# Altium integrated library Linear Technology Power Management LDO Linear Regulators.IntLib: 2339 symbols (part 53 of 131)
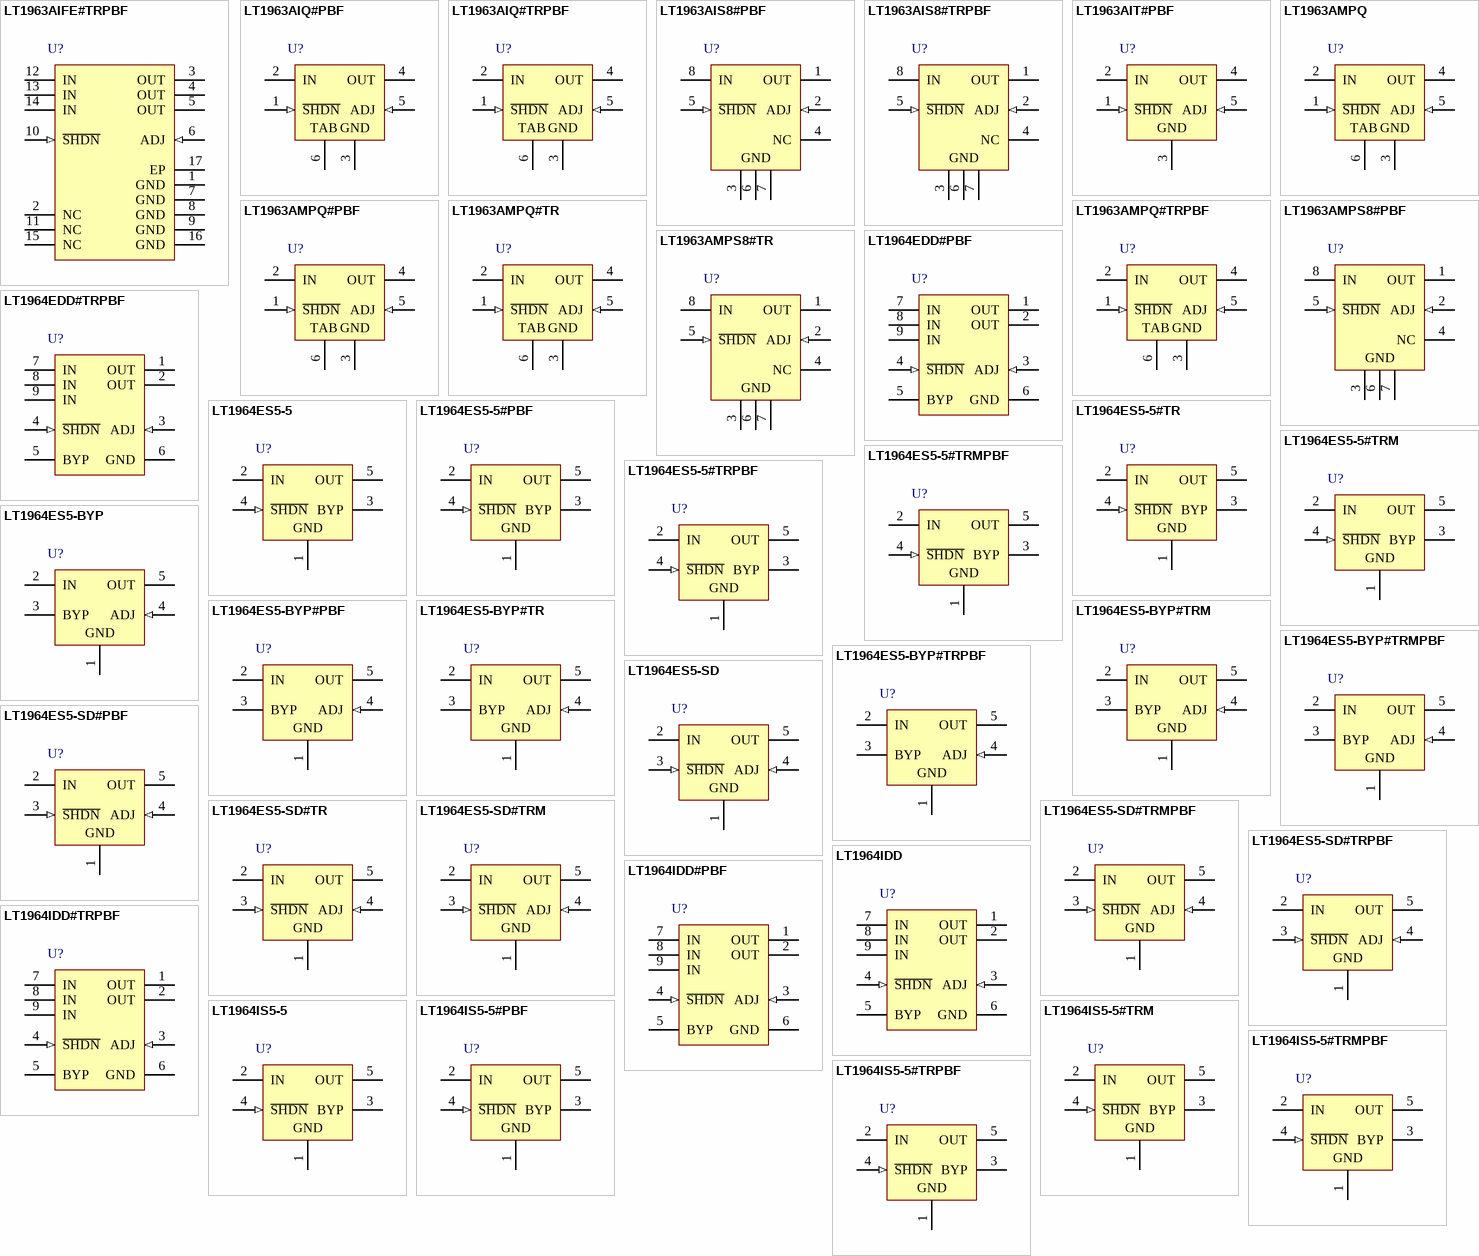
[diagram p121: symbols LT1963AIFE#TRPBF to LT1964IS5-5#TRPBF]

## LT1964IS5-5#TRM
designator U?
200 mA, Low Noise, Low Dropout Negative Micropower Regulator, -1.9 to -20 V Vin, -5 V Vout, 5-pin SOT23 (S5-5), -40 to 125 degC, Mini Tape and Reel; Manufacturer: Linear Technology; PartNumber: LT1964IS5-5#TRM; Discrete Pass Element: no; Dropout Voltage(V): 0.34; Iout(mA): 200; Isupply(mA): 0.03; Noise(uV): 30; Number of Outputs: 1; Output Voltage: -5 V; PSRR(dB): 54; Shutdown Current(uA): 3; Vout Max(V): -1.22; DatasheetVersion: Rev. B; PackageVersion: Jun-10; PackageReference: S5-5; PackageDescription: 5-Pin Plastic TSOT-23, Body 1.63 x 2.90 mm, Pitch 0.95 mm; Packing: Mini Tape and Reel; RoHS: FALSE; Vin Max(V): -1.9; Vin Min(V): -20; Vout Min(V): -20; Mounting Technology: Surface Mount; Code_JEDEC: MO-193; ComponentLink1Description: Manufacturer URL; ComponentLink1URL: http://www.linear.com/; ComponentLink2Description: Datasheet; ComponentLink2URL: http://cds.linear.com/docs/en/datasheet/1964fb.pdf; ComponentLink3Description: Package Specification; ComponentLink3URL: http://cds.linear.com/docs/en/packaging/SOT_5_05-08-1635.pdf
footprint LT-S5-5-TSOT-23_N (SOT23, 5-Leads, Body 2.90x1.63mm, Pitch 0.95mm, IPC Medium Density)
footprint LT-S5-5-TSOT-23_L (SOT23, 5-Leads, Body 2.90x1.63mm, Pitch 0.95mm, IPC High Density)
footprint LT-S5-5-TSOT-23_M (SOT23, 5-Leads, Body 2.90x1.63mm, Pitch 0.95mm, IPC Low Density)
pins: 1 GND (power) "Ground.", 2 IN (power) "Power is Supplied to the Device Through the Input Pin. A bypass capacitor is required on this pin if the device is more than six inches away from the main input filter capacitor. In general, the output impedance of a battery (See Datasheet)", 3 BYP "The BYP Pin is used to Bypass the Reference of the LT1964 to Achieve Low Noise Performance from the Regulator. A small capacitor from the output to this pin will bypass the reference to lower the output voltage noise. A (See Datasheet)", 4 ~{SHDN} (in) "The S\H\D\N\ Pin is used to put the LT1964 into a Low Power Shutdown State. The S\H\D\N\ pin is referenced to the GND pin for regulator control, allowing the LT1964 to be driven by either positive or negative logic. The (See Datasheet)", 5 OUT (power) "The Output Supplies Power to the Load. A minimum output capacitor of 1uF is required to prevent oscillations. Larger output capacitors will be required for applications with large transient loads to limit peak voltage (See Datasheet)"

## LT1964IS5-5#TRMPBF
designator U?
200 mA, Low Noise, Low Dropout Negative Micropower Regulator, -1.9 to -20 V Vin, -5 V Vout, 5-pin SOT23 (S5-5), -40 to 125 degC, Pb-Free, Mini Tape and Reel; Manufacturer: Linear Technology; PartNumber: LT1964IS5-5#TRMPBF; Discrete Pass Element: no; Dropout Voltage(V): 0.34; Iout(mA): 200; Isupply(mA): 0.03; Noise(uV): 30; Number of Outputs: 1; Output Voltage: -5 V; PSRR(dB): 54; Shutdown Current(uA): 3; DatasheetVersion: Rev. B; PackageVersion: Jun-10; PackageReference: S5-5; PackageDescription: 5-Pin Plastic TSOT-23, Body 1.63 x 2.90 mm, Pitch 0.95 mm; Supplier 1: Digi-Key; Supplier Part Number 1: LT1964IS5-5#TRMPBFTR-ND; Supplier 2: Digi-Key; Supplier Part Number 2: LT1964IS5-5#TRMPBFCT-ND; Supplier 3: Digi-Key; Supplier Part Number 3: LT1964IS5-5#TRMPBFDKR-ND; Supplier 4: Newark; Supplier Part Number 4: 15N3640; Packing: Mini Tape and Reel; RoHS: TRUE; Vin Max(V): -1.9; Vin Min(V): -20; Mounting Technology: Surface Mount; Code_JEDEC: MO-193; ComponentLink1Description: Manufacturer URL; ComponentLink1URL: http://www.linear.com/; ComponentLink2Description: Datasheet; ComponentLink2URL: http://cds.linear.com/docs/en/datasheet/1964fb.pdf; ComponentLink3Description: Package Specification; ComponentLink3URL: http://cds.linear.com/docs/en/packaging/SOT_5_05-08-1635.pdf
footprint LT-S5-5-TSOT-23_N (SOT23, 5-Leads, Body 2.90x1.63mm, Pitch 0.95mm, IPC Medium Density)
footprint LT-S5-5-TSOT-23_L (SOT23, 5-Leads, Body 2.90x1.63mm, Pitch 0.95mm, IPC High Density)
footprint LT-S5-5-TSOT-23_M (SOT23, 5-Leads, Body 2.90x1.63mm, Pitch 0.95mm, IPC Low Density)
pins: 1 GND (power) "Ground.", 2 IN (power) "Power is Supplied to the Device Through the Input Pin. A bypass capacitor is required on this pin if the device is more than six inches away from the main input filter capacitor. In general, the output impedance of a battery (See Datasheet)", 3 BYP "The BYP Pin is used to Bypass the Reference of the LT1964 to Achieve Low Noise Performance from the Regulator. A small capacitor from the output to this pin will bypass the reference to lower the output voltage noise. A (See Datasheet)", 4 ~{SHDN} (in) "The S\H\D\N\ Pin is used to put the LT1964 into a Low Power Shutdown State. The S\H\D\N\ pin is referenced to the GND pin for regulator control, allowing the LT1964 to be driven by either positive or negative logic. The (See Datasheet)", 5 OUT (power) "The Output Supplies Power to the Load. A minimum output capacitor of 1uF is required to prevent oscillations. Larger output capacitors will be required for applications with large transient loads to limit peak voltage (See Datasheet)"

## LT1964IS5-5#TRPBF
designator U?
200 mA, Low Noise, Low Dropout Negative Micropower Regulator, -1.9 to -20 V Vin, -5 V Vout, 5-pin SOT23 (S5-5), -40 to 125 degC, Pb-Free, Tape and Reel; Manufacturer: Linear Technology; PartNumber: LT1964IS5-5#TRPBF; Discrete Pass Element: no; Dropout Voltage(V): 0.34; Iout(mA): 200; Isupply(mA): 0.03; Noise(uV): 30; Number of Outputs: 1; Output Voltage: -5 V; PSRR(dB): 54; Shutdown Current(uA): 3; Vout Max(V): -1.22; DatasheetVersion: Rev. B; PackageVersion: Jun-10; PackageReference: S5-5; PackageDescription: 5-Pin Plastic TSOT-23, Body 1.63 x 2.90 mm, Pitch 0.95 mm; Supplier 1: Digi-Key; Supplier Part Number 1: LT1964IS5-5#TRPBF-ND; Supplier 2: Newark; Supplier Part Number 2: 15N3641; Packing: Tape and Reel; RoHS: TRUE; Vin Max(V): -1.9; Vin Min(V): -20; Vout Min(V): -20; Mounting Technology: Surface Mount; Code_JEDEC: MO-193; ComponentLink1Description: Manufacturer URL; ComponentLink1URL: http://www.linear.com/; ComponentLink2Description: Datasheet; ComponentLink2URL: http://cds.linear.com/docs/en/datasheet/1964fb.pdf; ComponentLink3Description: Package Specification; ComponentLink3URL: http://cds.linear.com/docs/en/packaging/SOT_5_05-08-1635.pdf
footprint LT-S5-5-TSOT-23_N (SOT23, 5-Leads, Body 2.90x1.63mm, Pitch 0.95mm, IPC Medium Density)
footprint LT-S5-5-TSOT-23_L (SOT23, 5-Leads, Body 2.90x1.63mm, Pitch 0.95mm, IPC High Density)
footprint LT-S5-5-TSOT-23_M (SOT23, 5-Leads, Body 2.90x1.63mm, Pitch 0.95mm, IPC Low Density)
pins: 1 GND (power) "Ground.", 2 IN (power) "Power is Supplied to the Device Through the Input Pin. A bypass capacitor is required on this pin if the device is more than six inches away from the main input filter capacitor. In general, the output impedance of a battery (See Datasheet)", 3 BYP "The BYP Pin is used to Bypass the Reference of the LT1964 to Achieve Low Noise Performance from the Regulator. A small capacitor from the output to this pin will bypass the reference to lower the output voltage noise. A (See Datasheet)", 4 ~{SHDN} (in) "The S\H\D\N\ Pin is used to put the LT1964 into a Low Power Shutdown State. The S\H\D\N\ pin is referenced to the GND pin for regulator control, allowing the LT1964 to be driven by either positive or negative logic. The (See Datasheet)", 5 OUT (power) "The Output Supplies Power to the Load. A minimum output capacitor of 1uF is required to prevent oscillations. Larger output capacitors will be required for applications with large transient loads to limit peak voltage (See Datasheet)"

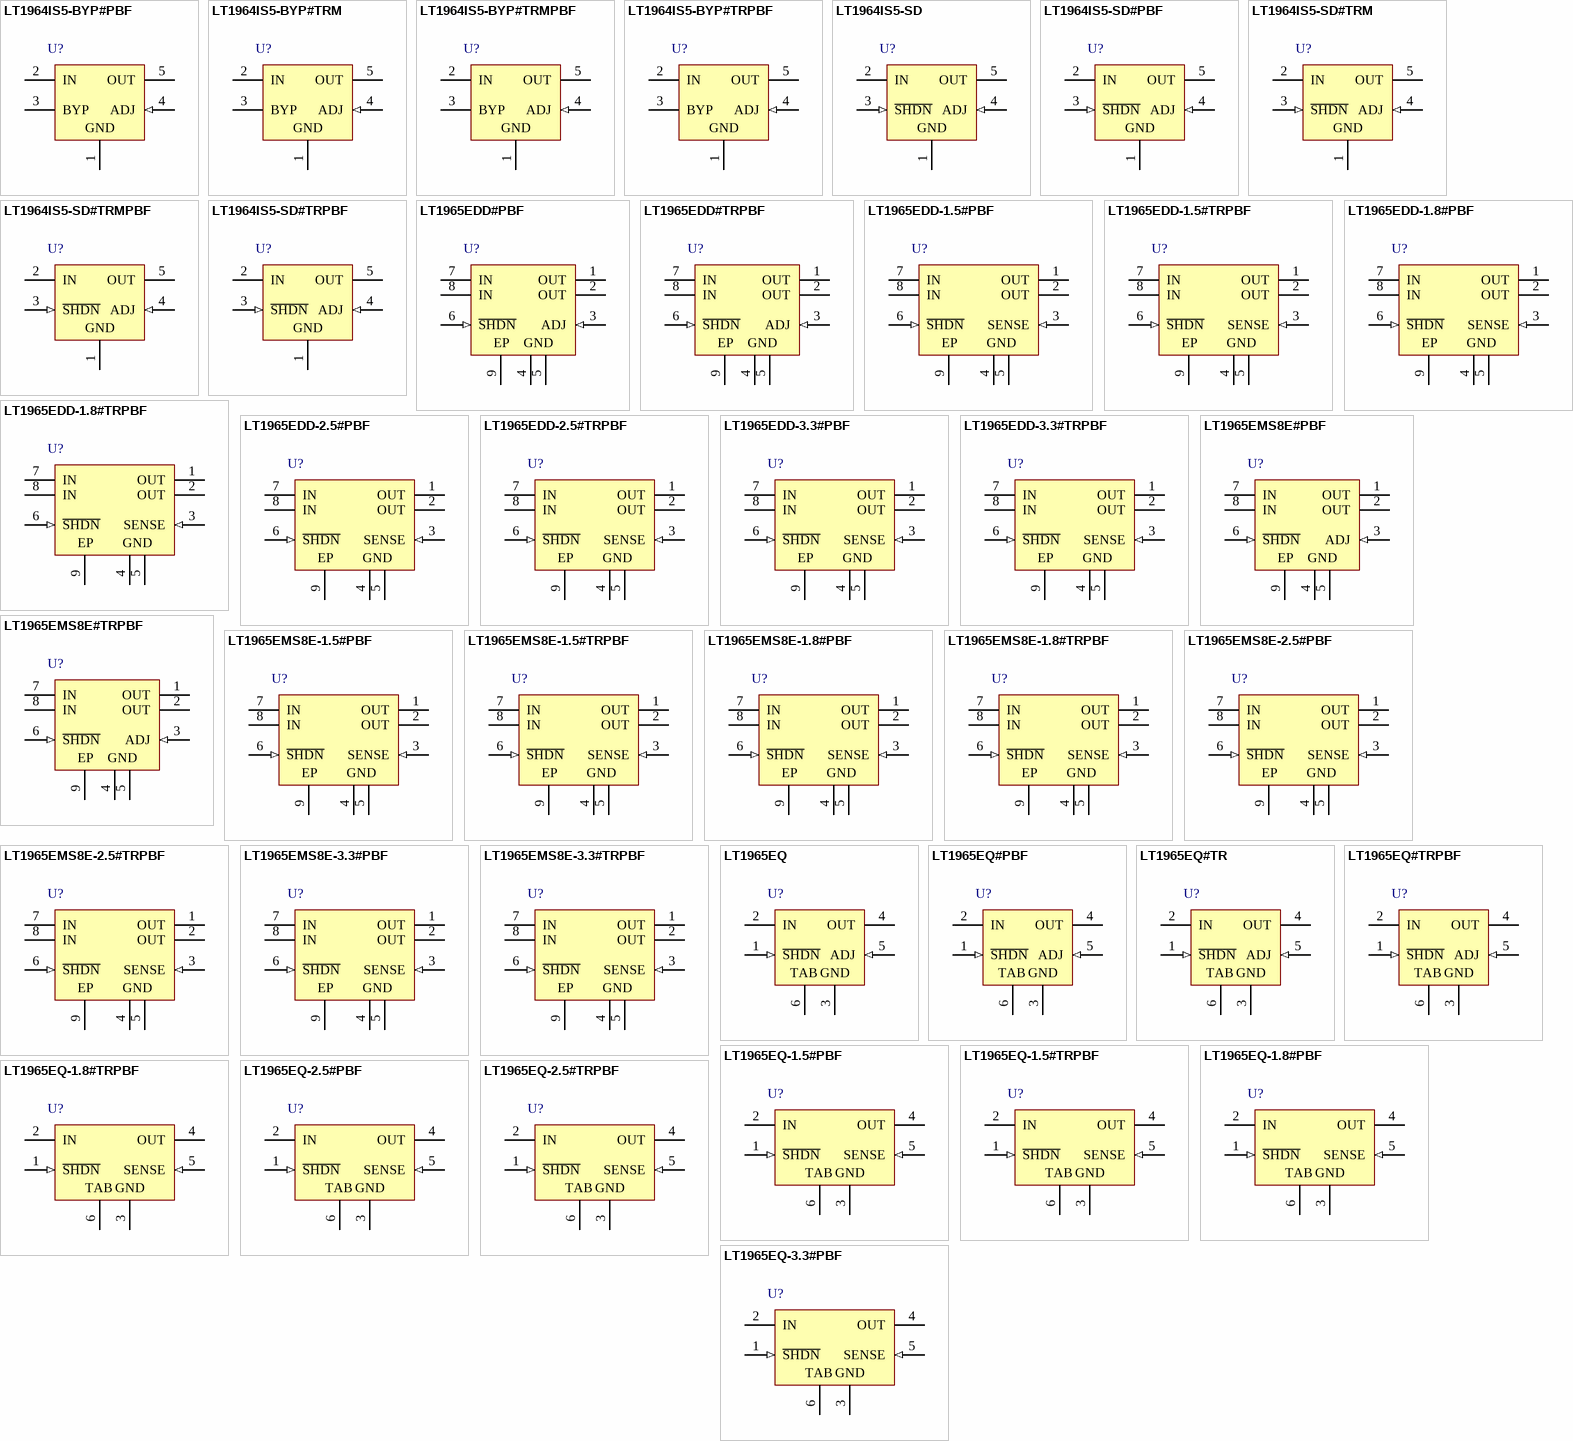
[diagram p35: symbols LT1964IS5-BYP#PBF to LT1965EQ-3.3#PBF]

## LT1964IS5-BYP#PBF
designator U?
200 mA, Low Noise, Low Dropout Negative Micropower Regulator, -1.9 to -20 V Vin, Adjustable Vout, 5-pin SOT23 (S5-5), -40 to 125 degC, Pb-Free; Manufacturer: Linear Technology; PartNumber: LT1964IS5-BYP#PBF; Discrete Pass Element: no; Dropout Voltage(V): 0.34; Iout(mA): 200; Isupply(mA): 0.03; Noise(uV): 30; Number of Outputs: 1; Output Voltage: Adj; PSRR(dB): 54; Shutdown Current(uA): 3; Vout Max(V): -1.22; DatasheetVersion: Rev. B; PackageVersion: Jun-10; PackageReference: S5-5; PackageDescription: 5-Pin Plastic TSOT-23, Body 1.63 x 2.90 mm, Pitch 0.95 mm; Supplier 1: Newark; Supplier Part Number 1: 58T8720; RoHS: TRUE; Vin Max(V): -1.9; Vin Min(V): -20; Vout Min(V): -20; Mounting Technology: Surface Mount; Code_JEDEC: MO-193; ComponentLink1Description: Manufacturer URL; ComponentLink1URL: http://www.linear.com/; ComponentLink2Description: Datasheet; ComponentLink2URL: http://cds.linear.com/docs/en/datasheet/1964fb.pdf; ComponentLink3Description: Package Specification; ComponentLink3URL: http://cds.linear.com/docs/en/packaging/SOT_5_05-08-1635.pdf
footprint LT-S5-5-TSOT-23_N (SOT23, 5-Leads, Body 2.90x1.63mm, Pitch 0.95mm, IPC Medium Density)
footprint LT-S5-5-TSOT-23_L (SOT23, 5-Leads, Body 2.90x1.63mm, Pitch 0.95mm, IPC High Density)
footprint LT-S5-5-TSOT-23_M (SOT23, 5-Leads, Body 2.90x1.63mm, Pitch 0.95mm, IPC Low Density)
pins: 1 GND (power) "Ground.", 2 IN (power) "Power is Supplied to the Device Through the Input Pin. A bypass capacitor is required on this pin if the device is more than six inches away from the main input filter capacitor. In general, the output impedance of a battery (See Datasheet)", 3 BYP "The BYP Pin is used to Bypass the Reference of the LT1964 to Achieve Low Noise Performance from the Regulator. A small capacitor from the output to this pin will bypass the reference to lower the output voltage noise. A (See Datasheet)", 4 ADJ (in) "For the Adjustable LT1964, this is the Input to the Error Amplifier. The ADJ pin has a bias current of 30nA that flows out of the pin. The ADJ pin voltage is -1.22V referenced to ground, and the output voltage range is -1.(See Datasheet)", 5 OUT (power) "The Output Supplies Power to the Load. A minimum output capacitor of 1uF is required to prevent oscillations. Larger output capacitors will be required for applications with large transient loads to limit peak voltage (See Datasheet)"

## LT1964IS5-BYP#TRM
designator U?
200 mA, Low Noise, Low Dropout Negative Micropower Regulator, -1.9 to -20 V Vin, Adjustable Vout, 5-pin SOT23 (S5-5), -40 to 125 degC, Mini Tape and Reel; Manufacturer: Linear Technology; PartNumber: LT1964IS5-BYP#TRM; Discrete Pass Element: no; Dropout Voltage(V): 0.34; Iout(mA): 200; Isupply(mA): 0.03; Noise(uV): 30; Number of Outputs: 1; Output Voltage: Adj; PSRR(dB): 54; Shutdown Current(uA): 3; Vout Max(V): -1.22; DatasheetVersion: Rev. B; PackageVersion: Jun-10; PackageReference: S5-5; PackageDescription: 5-Pin Plastic TSOT-23, Body 1.63 x 2.90 mm, Pitch 0.95 mm; Packing: Mini Tape and Reel; RoHS: FALSE; Vin Max(V): -1.9; Vin Min(V): -20; Vout Min(V): -20; Mounting Technology: Surface Mount; Code_JEDEC: MO-193; ComponentLink1Description: Manufacturer URL; ComponentLink1URL: http://www.linear.com/; ComponentLink2Description: Datasheet; ComponentLink2URL: http://cds.linear.com/docs/en/datasheet/1964fb.pdf; ComponentLink3Description: Package Specification; ComponentLink3URL: http://cds.linear.com/docs/en/packaging/SOT_5_05-08-1635.pdf
footprint LT-S5-5-TSOT-23_N (SOT23, 5-Leads, Body 2.90x1.63mm, Pitch 0.95mm, IPC Medium Density)
footprint LT-S5-5-TSOT-23_L (SOT23, 5-Leads, Body 2.90x1.63mm, Pitch 0.95mm, IPC High Density)
footprint LT-S5-5-TSOT-23_M (SOT23, 5-Leads, Body 2.90x1.63mm, Pitch 0.95mm, IPC Low Density)
pins: 1 GND (power) "Ground.", 2 IN (power) "Power is Supplied to the Device Through the Input Pin. A bypass capacitor is required on this pin if the device is more than six inches away from the main input filter capacitor. In general, the output impedance of a battery (See Datasheet)", 3 BYP "The BYP Pin is used to Bypass the Reference of the LT1964 to Achieve Low Noise Performance from the Regulator. A small capacitor from the output to this pin will bypass the reference to lower the output voltage noise. A (See Datasheet)", 4 ADJ (in) "For the Adjustable LT1964, this is the Input to the Error Amplifier. The ADJ pin has a bias current of 30nA that flows out of the pin. The ADJ pin voltage is -1.22V referenced to ground, and the output voltage range is -1.(See Datasheet)", 5 OUT (power) "The Output Supplies Power to the Load. A minimum output capacitor of 1uF is required to prevent oscillations. Larger output capacitors will be required for applications with large transient loads to limit peak voltage (See Datasheet)"

## LT1964IS5-BYP#TRMPBF
designator U?
200 mA, Low Noise, Low Dropout Negative Micropower Regulator, -1.9 to -20 V Vin, Adjustable Vout, 5-pin SOT23 (S5-5), -40 to 125 degC, Pb-Free, Mini Tape and Reel; Manufacturer: Linear Technology; PartNumber: LT1964IS5-BYP#TRMPBF; Discrete Pass Element: no; Dropout Voltage(V): 0.34; Iout(mA): 200; Isupply(mA): 0.03; Noise(uV): 30; Number of Outputs: 1; Output Voltage: Adj; PSRR(dB): 54; Shutdown Current(uA): 3; Vout Max(V): -1.22; DatasheetVersion: Rev. B; PackageVersion: Jun-10; PackageReference: S5-5; PackageDescription: 5-Pin Plastic TSOT-23, Body 1.63 x 2.90 mm, Pitch 0.95 mm; Supplier 1: Digi-Key; Supplier Part Number 1: LT1964IS5-BYP#TRMPBFTR-ND; Supplier 2: Digi-Key; Supplier Part Number 2: LT1964IS5-BYP#TRMPBFCT-ND; Supplier 3: Digi-Key; Supplier Part Number 3: LT1964IS5-BYP#TRMPBFDKR-ND; Supplier 4: Newark; Supplier Part Number 4: 15N3636; Packing: Mini Tape and Reel; RoHS: TRUE; Vin Max(V): -1.9; Vin Min(V): -20; Vout Min(V): -20; Mounting Technology: Surface Mount; Code_JEDEC: MO-193; ComponentLink1Description: Manufacturer URL; ComponentLink1URL: http://www.linear.com/; ComponentLink2Description: Datasheet; ComponentLink2URL: http://cds.linear.com/docs/en/datasheet/1964fb.pdf; ComponentLink3Description: Package Specification; ComponentLink3URL: http://cds.linear.com/docs/en/packaging/SOT_5_05-08-1635.pdf
footprint LT-S5-5-TSOT-23_N (SOT23, 5-Leads, Body 2.90x1.63mm, Pitch 0.95mm, IPC Medium Density)
footprint LT-S5-5-TSOT-23_L (SOT23, 5-Leads, Body 2.90x1.63mm, Pitch 0.95mm, IPC High Density)
footprint LT-S5-5-TSOT-23_M (SOT23, 5-Leads, Body 2.90x1.63mm, Pitch 0.95mm, IPC Low Density)
pins: 1 GND (power) "Ground.", 2 IN (power) "Power is Supplied to the Device Through the Input Pin. A bypass capacitor is required on this pin if the device is more than six inches away from the main input filter capacitor. In general, the output impedance of a battery (See Datasheet)", 3 BYP "The BYP Pin is used to Bypass the Reference of the LT1964 to Achieve Low Noise Performance from the Regulator. A small capacitor from the output to this pin will bypass the reference to lower the output voltage noise. A (See Datasheet)", 4 ADJ (in) "For the Adjustable LT1964, this is the Input to the Error Amplifier. The ADJ pin has a bias current of 30nA that flows out of the pin. The ADJ pin voltage is -1.22V referenced to ground, and the output voltage range is -1.(See Datasheet)", 5 OUT (power) "The Output Supplies Power to the Load. A minimum output capacitor of 1uF is required to prevent oscillations. Larger output capacitors will be required for applications with large transient loads to limit peak voltage (See Datasheet)"

## LT1964IS5-BYP#TRPBF
designator U?
200 mA, Low Noise, Low Dropout Negative Micropower Regulator, -1.9 to -20 V Vin, Adjustable Vout, 5-pin SOT23 (S5-5), -40 to 125 degC, Pb-Free, Tape and Reel; Manufacturer: Linear Technology; PartNumber: LT1964IS5-BYP#TRPBF; Discrete Pass Element: no; Dropout Voltage(V): 0.34; Iout(mA): 200; Isupply(mA): 0.03; Noise(uV): 30; Number of Outputs: 1; Output Voltage: Adj; PSRR(dB): 54; Shutdown Current(uA): 3; Vout Max(V): -1.22; DatasheetVersion: Rev. B; PackageVersion: Jun-10; PackageReference: S5-5; PackageDescription: 5-Pin Plastic TSOT-23, Body 1.63 x 2.90 mm, Pitch 0.95 mm; Supplier 1: Digi-Key; Supplier Part Number 1: LT1964IS5-BYP#TRPBF-ND; Supplier 2: Newark; Supplier Part Number 2: 15N3637; Packing: Tape and Reel; RoHS: TRUE; Vin Max(V): -1.9; Vin Min(V): -20; Vout Min(V): -20; Mounting Technology: Surface Mount; Code_JEDEC: MO-193; ComponentLink1Description: Manufacturer URL; ComponentLink1URL: http://www.linear.com/; ComponentLink2Description: Datasheet; ComponentLink2URL: http://cds.linear.com/docs/en/datasheet/1964fb.pdf; ComponentLink3Description: Package Specification; ComponentLink3URL: http://cds.linear.com/docs/en/packaging/SOT_5_05-08-1635.pdf
footprint LT-S5-5-TSOT-23_N (SOT23, 5-Leads, Body 2.90x1.63mm, Pitch 0.95mm, IPC Medium Density)
footprint LT-S5-5-TSOT-23_L (SOT23, 5-Leads, Body 2.90x1.63mm, Pitch 0.95mm, IPC High Density)
footprint LT-S5-5-TSOT-23_M (SOT23, 5-Leads, Body 2.90x1.63mm, Pitch 0.95mm, IPC Low Density)
pins: 1 GND (power) "Ground.", 2 IN (power) "Power is Supplied to the Device Through the Input Pin. A bypass capacitor is required on this pin if the device is more than six inches away from the main input filter capacitor. In general, the output impedance of a battery (See Datasheet)", 3 BYP "The BYP Pin is used to Bypass the Reference of the LT1964 to Achieve Low Noise Performance from the Regulator. A small capacitor from the output to this pin will bypass the reference to lower the output voltage noise. A (See Datasheet)", 4 ADJ (in) "For the Adjustable LT1964, this is the Input to the Error Amplifier. The ADJ pin has a bias current of 30nA that flows out of the pin. The ADJ pin voltage is -1.22V referenced to ground, and the output voltage range is -1.(See Datasheet)", 5 OUT (power) "The Output Supplies Power to the Load. A minimum output capacitor of 1uF is required to prevent oscillations. Larger output capacitors will be required for applications with large transient loads to limit peak voltage (See Datasheet)"

## LT1964IS5-SD
designator U?
200 mA, Low Noise, Low Dropout Negative Micropower Regulator, -1.6 to -20 V Vin, Adjustable Vout, 5-pin SOT23 (S5-5), -40 to 125 degC; Manufacturer: Linear Technology; PartNumber: LT1964IS5-SD; Discrete Pass Element: no; Dropout Voltage(V): 0.34; Iout(mA): 200; Isupply(mA): 0.03; Noise(uV): 30; Number of Outputs: 1; Output Voltage: Adj; PSRR(dB): 54; Shutdown Current(uA): 3; Vout Max(V): -1.22; DatasheetVersion: Rev. B; PackageVersion: Jun-10; PackageReference: S5-5; PackageDescription: 5-Pin Plastic TSOT-23, Body 1.63 x 2.90 mm, Pitch 0.95 mm; RoHS: FALSE; Vin Max(V): -1.6; Vin Min(V): -20; Vout Min(V): -20; Mounting Technology: Surface Mount; Code_JEDEC: MO-193; ComponentLink1Description: Manufacturer URL; ComponentLink1URL: http://www.linear.com/; ComponentLink2Description: Datasheet; ComponentLink2URL: http://cds.linear.com/docs/en/datasheet/1964fb.pdf; ComponentLink3Description: Package Specification; ComponentLink3URL: http://cds.linear.com/docs/en/packaging/SOT_5_05-08-1635.pdf
footprint LT-S5-5-TSOT-23_N (SOT23, 5-Leads, Body 2.90x1.63mm, Pitch 0.95mm, IPC Medium Density)
footprint LT-S5-5-TSOT-23_L (SOT23, 5-Leads, Body 2.90x1.63mm, Pitch 0.95mm, IPC High Density)
footprint LT-S5-5-TSOT-23_M (SOT23, 5-Leads, Body 2.90x1.63mm, Pitch 0.95mm, IPC Low Density)
pins: 1 GND (power) "Ground.", 2 IN (power) "Power is Supplied to the Device Through the Input Pin. A bypass capacitor is required on this pin if the device is more than six inches away from the main input filter capacitor. In general, the output impedance of a battery (See Datasheet)", 3 ~{SHDN} (in) "The S\H\D\N\ Pin is used to put the LT1964 into a Low Power Shutdown State. The S\H\D\N\ pin is referenced to the GND pin for regulator control, allowing the LT1964 to be driven by either positive or negative logic. The (See Datasheet)", 4 ADJ (in) "For the Adjustable LT1964, this is the Input to the Error Amplifier. The ADJ pin has a bias current of 30nA that flows out of the pin. The ADJ pin voltage is -1.22V referenced to ground, and the output voltage range is -1.(See Datasheet)", 5 OUT (power) "The Output Supplies Power to the Load. A minimum output capacitor of 1uF is required to prevent oscillations. Larger output capacitors will be required for applications with large transient loads to limit peak voltage (See Datasheet)"

## LT1964IS5-SD#PBF
designator U?
200 mA, Low Noise, Low Dropout Negative Micropower Regulator, -1.6 to -20 V Vin, Adjustable Vout, 5-pin SOT23 (S5-5), -40 to 125 degC, Pb-Free; Manufacturer: Linear Technology; PartNumber: LT1964IS5-SD#PBF; Discrete Pass Element: no; Dropout Voltage(V): 0.34; Iout(mA): 200; Isupply(mA): 0.03; Noise(uV): 30; Number of Outputs: 1; Output Voltage: Adj; PSRR(dB): 54; Shutdown Current(uA): 3; Vout Max(V): -1.22; DatasheetVersion: Rev. B; PackageVersion: Jun-10; PackageReference: S5-5; PackageDescription: 5-Pin Plastic TSOT-23, Body 1.63 x 2.90 mm, Pitch 0.95 mm; Supplier 1: Newark; Supplier Part Number 1: 78T3772; RoHS: TRUE; Vin Max(V): -1.6; Vin Min(V): -20; Vout Min(V): -20; Mounting Technology: Surface Mount; Code_JEDEC: MO-193; ComponentLink1Description: Manufacturer URL; ComponentLink1URL: http://www.linear.com/; ComponentLink2Description: Datasheet; ComponentLink2URL: http://cds.linear.com/docs/en/datasheet/1964fb.pdf; ComponentLink3Description: Package Specification; ComponentLink3URL: http://cds.linear.com/docs/en/packaging/SOT_5_05-08-1635.pdf
footprint LT-S5-5-TSOT-23_N (SOT23, 5-Leads, Body 2.90x1.63mm, Pitch 0.95mm, IPC Medium Density)
footprint LT-S5-5-TSOT-23_L (SOT23, 5-Leads, Body 2.90x1.63mm, Pitch 0.95mm, IPC High Density)
footprint LT-S5-5-TSOT-23_M (SOT23, 5-Leads, Body 2.90x1.63mm, Pitch 0.95mm, IPC Low Density)
pins: 1 GND (power) "Ground.", 2 IN (power) "Power is Supplied to the Device Through the Input Pin. A bypass capacitor is required on this pin if the device is more than six inches away from the main input filter capacitor. In general, the output impedance of a battery (See Datasheet)", 3 ~{SHDN} (in) "The S\H\D\N\ Pin is used to put the LT1964 into a Low Power Shutdown State. The S\H\D\N\ pin is referenced to the GND pin for regulator control, allowing the LT1964 to be driven by either positive or negative logic. The (See Datasheet)", 4 ADJ (in) "For the Adjustable LT1964, this is the Input to the Error Amplifier. The ADJ pin has a bias current of 30nA that flows out of the pin. The ADJ pin voltage is -1.22V referenced to ground, and the output voltage range is -1.(See Datasheet)", 5 OUT (power) "The Output Supplies Power to the Load. A minimum output capacitor of 1uF is required to prevent oscillations. Larger output capacitors will be required for applications with large transient loads to limit peak voltage (See Datasheet)"

## LT1964IS5-SD#TRM
designator U?
200 mA, Low Noise, Low Dropout Negative Micropower Regulator, -1.6 to -20 V Vin, Adjustable Vout, 5-pin SOT23 (S5-5), -40 to 125 degC, Mini Tape and Reel; Manufacturer: Linear Technology; PartNumber: LT1964IS5-SD#TRM; Discrete Pass Element: no; Dropout Voltage(V): 0.34; Iout(mA): 200; Isupply(mA): 0.03; Noise(uV): 30; Number of Outputs: 1; Output Voltage: Adj; PSRR(dB): 54; Shutdown Current(uA): 3; Vout Max(V): -1.22; DatasheetVersion: Rev. B; PackageVersion: Jun-10; PackageReference: S5-5; PackageDescription: 5-Pin Plastic TSOT-23, Body 1.63 x 2.90 mm, Pitch 0.95 mm; Packing: Mini Tape and Reel; RoHS: FALSE; Vin Max(V): -1.6; Vin Min(V): -20; Vout Min(V): -20; Mounting Technology: Surface Mount; Code_JEDEC: MO-193; ComponentLink1Description: Manufacturer URL; ComponentLink1URL: http://www.linear.com/; ComponentLink2Description: Datasheet; ComponentLink2URL: http://cds.linear.com/docs/en/datasheet/1964fb.pdf; ComponentLink3Description: Package Specification; ComponentLink3URL: http://cds.linear.com/docs/en/packaging/SOT_5_05-08-1635.pdf
footprint LT-S5-5-TSOT-23_N (SOT23, 5-Leads, Body 2.90x1.63mm, Pitch 0.95mm, IPC Medium Density)
footprint LT-S5-5-TSOT-23_L (SOT23, 5-Leads, Body 2.90x1.63mm, Pitch 0.95mm, IPC High Density)
footprint LT-S5-5-TSOT-23_M (SOT23, 5-Leads, Body 2.90x1.63mm, Pitch 0.95mm, IPC Low Density)
pins: 1 GND (power) "Ground.", 2 IN (power) "Power is Supplied to the Device Through the Input Pin. A bypass capacitor is required on this pin if the device is more than six inches away from the main input filter capacitor. In general, the output impedance of a battery (See Datasheet)", 3 ~{SHDN} (in) "The S\H\D\N\ Pin is used to put the LT1964 into a Low Power Shutdown State. The S\H\D\N\ pin is referenced to the GND pin for regulator control, allowing the LT1964 to be driven by either positive or negative logic. The (See Datasheet)", 4 ADJ (in) "For the Adjustable LT1964, this is the Input to the Error Amplifier. The ADJ pin has a bias current of 30nA that flows out of the pin. The ADJ pin voltage is -1.22V referenced to ground, and the output voltage range is -1.(See Datasheet)", 5 OUT (power) "The Output Supplies Power to the Load. A minimum output capacitor of 1uF is required to prevent oscillations. Larger output capacitors will be required for applications with large transient loads to limit peak voltage (See Datasheet)"

## LT1964IS5-SD#TRMPBF
designator U?
200 mA, Low Noise, Low Dropout Negative Micropower Regulator, -1.6 to -20 V Vin, Adjustable Vout, 5-pin SOT23 (S5-5), -40 to 125 degC, Pb-Free, Mini Tape and Reel; Manufacturer: Linear Technology; PartNumber: LT1964IS5-SD#TRMPBF; Discrete Pass Element: no; Dropout Voltage(V): 0.34; Iout(mA): 200; Isupply(mA): 0.03; Noise(uV): 30; Number of Outputs: 1; Output Voltage: Adj; PSRR(dB): 54; Shutdown Current(uA): 3; Vout Max(V): -1.22; DatasheetVersion: Rev. B; PackageVersion: Jun-10; PackageReference: S5-5; PackageDescription: 5-Pin Plastic TSOT-23, Body 1.63 x 2.90 mm, Pitch 0.95 mm; Supplier 1: Digi-Key; Supplier Part Number 1: LT1964IS5-SD#TRMPBF-ND; Packing: Mini Tape and Reel; RoHS: TRUE; Vin Max(V): -1.6; Vin Min(V): -20; Vout Min(V): -20; Mounting Technology: Surface Mount; Code_JEDEC: MO-193; ComponentLink1Description: Manufacturer URL; ComponentLink1URL: http://www.linear.com/; ComponentLink2Description: Datasheet; ComponentLink2URL: http://cds.linear.com/docs/en/datasheet/1964fb.pdf; ComponentLink3Description: Package Specification; ComponentLink3URL: http://cds.linear.com/docs/en/packaging/SOT_5_05-08-1635.pdf
footprint LT-S5-5-TSOT-23_N (SOT23, 5-Leads, Body 2.90x1.63mm, Pitch 0.95mm, IPC Medium Density)
footprint LT-S5-5-TSOT-23_L (SOT23, 5-Leads, Body 2.90x1.63mm, Pitch 0.95mm, IPC High Density)
footprint LT-S5-5-TSOT-23_M (SOT23, 5-Leads, Body 2.90x1.63mm, Pitch 0.95mm, IPC Low Density)
pins: 1 GND (power) "Ground.", 2 IN (power) "Power is Supplied to the Device Through the Input Pin. A bypass capacitor is required on this pin if the device is more than six inches away from the main input filter capacitor. In general, the output impedance of a battery (See Datasheet)", 3 ~{SHDN} (in) "The S\H\D\N\ Pin is used to put the LT1964 into a Low Power Shutdown State. The S\H\D\N\ pin is referenced to the GND pin for regulator control, allowing the LT1964 to be driven by either positive or negative logic. The (See Datasheet)", 4 ADJ (in) "For the Adjustable LT1964, this is the Input to the Error Amplifier. The ADJ pin has a bias current of 30nA that flows out of the pin. The ADJ pin voltage is -1.22V referenced to ground, and the output voltage range is -1.(See Datasheet)", 5 OUT (power) "The Output Supplies Power to the Load. A minimum output capacitor of 1uF is required to prevent oscillations. Larger output capacitors will be required for applications with large transient loads to limit peak voltage (See Datasheet)"

## LT1964IS5-SD#TRPBF
designator U?
200 mA, Low Noise, Low Dropout Negative Micropower Regulator, -1.9 to -20 V Vin, -5 V Vout, 5-pin SOT23 (S5-5), -40 to 125 degC, Pb-Free, Tape and Reel; Manufacturer: Linear Technology; PartNumber: LT1964IS5-SD#TRPBF; Discrete Pass Element: no; Dropout Voltage(V): 0.34; Iout(mA): 200; Isupply(mA): 0.03; Noise(uV): 30; Number of Outputs: 1; Output Voltage: -5 V; PSRR(dB): 54; Shutdown Current(uA): 3; Vout Max(V): -1.22; DatasheetVersion: Rev. B; PackageVersion: Jun-10; PackageReference: S5-5; PackageDescription: 5-Pin Plastic TSOT-23, Body 1.63 x 2.90 mm, Pitch 0.95 mm; Supplier 1: Digi-Key; Supplier Part Number 1: LT1964IS5-SD#TRPBF-ND; Packing: Tape and Reel; RoHS: TRUE; Vin Max(V): -1.9; Vin Min(V): -20; Vout Min(V): -20; Mounting Technology: Surface Mount; Code_JEDEC: MO-193; ComponentLink1Description: Manufacturer URL; ComponentLink1URL: http://www.linear.com/; ComponentLink2Description: Datasheet; ComponentLink2URL: http://cds.linear.com/docs/en/datasheet/1964fb.pdf; ComponentLink3Description: Package Specification; ComponentLink3URL: http://cds.linear.com/docs/en/packaging/SOT_5_05-08-1635.pdf
footprint LT-S5-5-TSOT-23_N (SOT23, 5-Leads, Body 2.90x1.63mm, Pitch 0.95mm, IPC Medium Density)
footprint LT-S5-5-TSOT-23_L (SOT23, 5-Leads, Body 2.90x1.63mm, Pitch 0.95mm, IPC High Density)
footprint LT-S5-5-TSOT-23_M (SOT23, 5-Leads, Body 2.90x1.63mm, Pitch 0.95mm, IPC Low Density)
pins: 1 GND (power) "Ground.", 2 IN (power) "Power is Supplied to the Device Through the Input Pin. A bypass capacitor is required on this pin if the device is more than six inches away from the main input filter capacitor. In general, the output impedance of a battery (See Datasheet)", 3 ~{SHDN} (in) "The S\H\D\N\ Pin is used to put the LT1964 into a Low Power Shutdown State. The S\H\D\N\ pin is referenced to the GND pin for regulator control, allowing the LT1964 to be driven by either positive or negative logic. The (See Datasheet)", 4 ADJ (in) "For the Adjustable LT1964, this is the Input to the Error Amplifier. The ADJ pin has a bias current of 30nA that flows out of the pin. The ADJ pin voltage is -1.22V referenced to ground, and the output voltage range is -1.(See Datasheet)", 5 OUT (power) "The Output Supplies Power to the Load. A minimum output capacitor of 1uF is required to prevent oscillations. Larger output capacitors will be required for applications with large transient loads to limit peak voltage (See Datasheet)"

## LT1965EDD#PBF
designator U?
1.1 A, Low Noise, Low Dropout Linear Regulator, 1.8 to 20 V Vin, Adjustable Vout, 8-pin SON (DD-8), -40 to 125 degC, Pb-Free; Manufacturer: Linear Technology; PartNumber: LT1965EDD#PBF; Discrete Pass Element: no; Dropout Voltage(V): 0.31; Iout(mA): 1100; Isupply(mA): 0.5; Noise(uV): 40; Number of Outputs: 1; Output Voltage: Adj; PSRR(dB): 75; Vin Max(V): 20; Vin Min(V): 1.8; Vout Max(V): 19.5; Vout Min(V): 1.2; DatasheetVersion: Rev. A; PackageVersion: Jun-10; PackageReference: DD-8; PackageDescription: 8-Pin Plastic DFN, Body 3 x 3 mm, Pitch 0.5 mm; Supplier 1: Digi-Key; Supplier Part Number 1: LT1965EDD#PBF-ND; Supplier 2: Farnell; Supplier Part Number 2: 1663531; Supplier 3: Newark; Supplier Part Number 3: 57M7592; RoHS: TRUE; Shutdown Current(uA): 1; Mounting Technology: Surface Mount; Code_JEDEC: MO-229; ComponentLink1Description: Manufacturer URL; ComponentLink1URL: http://www.linear.com/; ComponentLink2Description: Datasheet; ComponentLink2URL: http://cds.linear.com/docs/en/datasheet/1965fa.pdf; ComponentLink3Description: Package Specification; ComponentLink3URL: http://cds.linear.com/docs/en/packaging/DFN_8_05-08-1698.pdf
footprint LT-DD-8_V (SON, 8-Leads, Body 3x3mm, Pitch 0.5mm, Thermal Pad 1.65x2.38 mm, IPC Low Density)
pins: 1 OUT (power) "Output. This pin supplies power to the load. Use a minimum output capacitor of 10uF to prevent oscillations. Large load transient applications require larger output capacitors to limit peak voltage transients. See the (See Datasheet)", 2 OUT (power) "Output. This pin supplies power to the load. Use a minimum output capacitor of 10uF to prevent oscillations. Large load transient applications require larger output capacitors to limit peak voltage transients. See the (See Datasheet)", 3 ADJ (in) "Adjust. This pin is the input to the error amplifier. It has a typical bias current of 1.3uA that flows into the pin. The ADJ pin voltage is 1.20V referenced to ground.", 4 GND (power) "Ground. For the adjustable LT1965, connect the bottom of the resistor divider, setting output voltage, directly to GND for optimum regulation.", 5 GND (power) "Ground. For the adjustable LT1965, connect the bottom of the resistor divider, setting output voltage, directly to GND for optimum regulation.", 6 ~{SHDN} (in) "Shutdown. Pulling the S\H\D\N\ pin low puts the LT1965 into a low power state and turns the output off. Drive the S\H\D\N\ pin with either logic or an open collector/drain with a pull-up resistor. The resistor supplies the (See Datasheet)", 7 IN (power) "Input. This pin supplies power to the device. The LT1965 requires a bypass capacitor at IN if located more than six inches from the main input filter capacitor. Include a bypass capacitor in battery-powered circuits as a (See Datasheet)", 8 IN (power) "Input. This pin supplies power to the device. The LT1965 requires a bypass capacitor at IN if located more than six inches from the main input filter capacitor. Include a bypass capacitor in battery-powered circuits as a (See Datasheet)", 9 EP (power) "Ground. Tie this pin directly to Pins 4 and 5 and the PCB ground. This pin provides enhanced thermal performance with its connection to the PCB ground. See the Applications Information section for thermal considerations and (See Datasheet)"

## LT1965EDD#TRPBF
designator U?
1.1 A, Low Noise, Low Dropout Linear Regulator, 1.8 to 20 V Vin, Adjustable Vout, 8-pin SON (DD-8), -40 to 125 degC, Pb-Free, Tape and Reel; Manufacturer: Linear Technology; PartNumber: LT1965EDD#TRPBF; Discrete Pass Element: no; Dropout Voltage(V): 0.31; Iout(mA): 1100; Isupply(mA): 0.5; Noise(uV): 40; Number of Outputs: 1; Output Voltage: Adj; PSRR(dB): 75; Vin Max(V): 20; Vin Min(V): 1.8; Vout Max(V): 19.5; Vout Min(V): 1.2; DatasheetVersion: Rev. A; PackageVersion: Jun-10; PackageReference: DD-8; PackageDescription: 8-Pin Plastic DFN, Body 3 x 3 mm, Pitch 0.5 mm; Supplier 1: Digi-Key; Supplier Part Number 1: LT1965EDD#TRPBF-ND; Supplier 2: Newark; Supplier Part Number 2: 57M7593; Packing: Tape and Reel; RoHS: TRUE; Shutdown Current(uA): 1; Mounting Technology: Surface Mount; Code_JEDEC: MO-229; ComponentLink1Description: Manufacturer URL; ComponentLink1URL: http://www.linear.com/; ComponentLink2Description: Datasheet; ComponentLink2URL: http://cds.linear.com/docs/en/datasheet/1965fa.pdf; ComponentLink3Description: Package Specification; ComponentLink3URL: http://cds.linear.com/docs/en/packaging/DFN_8_05-08-1698.pdf
footprint LT-DD-8_V (SON, 8-Leads, Body 3x3mm, Pitch 0.5mm, Thermal Pad 1.65x2.38 mm, IPC Low Density)
pins: 1 OUT (power) "Output. This pin supplies power to the load. Use a minimum output capacitor of 10uF to prevent oscillations. Large load transient applications require larger output capacitors to limit peak voltage transients. See the (See Datasheet)", 2 OUT (power) "Output. This pin supplies power to the load. Use a minimum output capacitor of 10uF to prevent oscillations. Large load transient applications require larger output capacitors to limit peak voltage transients. See the (See Datasheet)", 3 ADJ (in) "Adjust. This pin is the input to the error amplifier. It has a typical bias current of 1.3uA that flows into the pin. The ADJ pin voltage is 1.20V referenced to ground.", 4 GND (power) "Ground. For the adjustable LT1965, connect the bottom of the resistor divider, setting output voltage, directly to GND for optimum regulation.", 5 GND (power) "Ground. For the adjustable LT1965, connect the bottom of the resistor divider, setting output voltage, directly to GND for optimum regulation.", 6 ~{SHDN} (in) "Shutdown. Pulling the S\H\D\N\ pin low puts the LT1965 into a low power state and turns the output off. Drive the S\H\D\N\ pin with either logic or an open collector/drain with a pull-up resistor. The resistor supplies the (See Datasheet)", 7 IN (power) "Input. This pin supplies power to the device. The LT1965 requires a bypass capacitor at IN if located more than six inches from the main input filter capacitor. Include a bypass capacitor in battery-powered circuits as a (See Datasheet)", 8 IN (power) "Input. This pin supplies power to the device. The LT1965 requires a bypass capacitor at IN if located more than six inches from the main input filter capacitor. Include a bypass capacitor in battery-powered circuits as a (See Datasheet)", 9 EP (power) "Ground. Tie this pin directly to Pins 4 and 5 and the PCB ground. This pin provides enhanced thermal performance with its connection to the PCB ground. See the Applications Information section for thermal considerations and (See Datasheet)"

## LT1965EDD-1.5#PBF
designator U?
1.1 A, Low Noise, Low Dropout Linear Regulator, 1.8 to 20 V Vin, 1.5 V Vout, 8-pin SON (DD-8), -40 to 125 degC, Pb-Free; Manufacturer: Linear Technology; PartNumber: LT1965EDD-1.5#PBF; Discrete Pass Element: no; Dropout Voltage(V): 0.31; Iout(mA): 1100; Isupply(mA): 0.5; Noise(uV): 40; Number of Outputs: 1; Output Voltage: 1.5 V; PSRR(dB): 75; Vin Max(V): 20; Vin Min(V): 1.8; DatasheetVersion: Rev. A; PackageVersion: Jun-10; PackageReference: DD-8; PackageDescription: 8-Pin Plastic DFN, Body 3 x 3 mm, Pitch 0.5 mm; Supplier 1: Digi-Key; Supplier Part Number 1: LT1965EDD-1.5#PBF-ND; Supplier 2: Newark; Supplier Part Number 2: 24R6652; RoHS: TRUE; Shutdown Current(uA): 1; Mounting Technology: Surface Mount; Code_JEDEC: MO-229; ComponentLink1Description: Manufacturer URL; ComponentLink1URL: http://www.linear.com/; ComponentLink2Description: Datasheet; ComponentLink2URL: http://cds.linear.com/docs/en/datasheet/1965fa.pdf; ComponentLink3Description: Package Specification; ComponentLink3URL: http://cds.linear.com/docs/en/packaging/DFN_8_05-08-1698.pdf
footprint LT-DD-8_V (SON, 8-Leads, Body 3x3mm, Pitch 0.5mm, Thermal Pad 1.65x2.38 mm, IPC Low Density)
pins: 1 OUT (power) "Output. This pin supplies power to the load. Use a minimum output capacitor of 10uF to prevent oscillations. Large load transient applications require larger output capacitors to limit peak voltage transients. See the (See Datasheet)", 2 OUT (power) "Output. This pin supplies power to the load. Use a minimum output capacitor of 10uF to prevent oscillations. Large load transient applications require larger output capacitors to limit peak voltage transients. See the (See Datasheet)", 3 SENSE (in) "Sense. For fixed voltage versions of the LT1965 (LT1965-1.5/LT1965-1.8/ LT1965-2.5/ LT1965-3.3), the SENSE pin is the input to the error amplifier. Optimum regulation is obtained when the SENSE pin is connected to the OUT (See Datasheet)", 4 GND (power) "Ground.", 5 GND (power) "Ground.", 6 ~{SHDN} (in) "Shutdown. Pulling the S\H\D\N\ pin low puts the LT1965 into a low power state and turns the output off. Drive the S\H\D\N\ pin with either logic or an open collector/drain with a pull-up resistor. The resistor supplies the (See Datasheet)", 7 IN (power) "Input. This pin supplies power to the device. The LT1965 requires a bypass capacitor at IN if located more than six inches from the main input filter capacitor. Include a bypass capacitor in battery-powered circuits as a (See Datasheet)", 8 IN (power) "Input. This pin supplies power to the device. The LT1965 requires a bypass capacitor at IN if located more than six inches from the main input filter capacitor. Include a bypass capacitor in battery-powered circuits as a (See Datasheet)", 9 EP (power) "Ground. Tie this pin directly to Pins 4 and 5 and the PCB ground. This pin provides enhanced thermal performance with its connection to the PCB ground. See the Applications Information section for thermal considerations and (See Datasheet)"

## LT1965EDD-1.5#TRPBF
designator U?
1.1 A, Low Noise, Low Dropout Linear Regulator, 1.8 to 20 V Vin, 1.5 V Vout, 8-pin SON (DD-8), -40 to 125 degC, Pb-Free, Tape and Reel; Manufacturer: Linear Technology; PartNumber: LT1965EDD-1.5#TRPBF; Discrete Pass Element: no; Dropout Voltage(V): 0.31; Iout(mA): 1100; Isupply(mA): 0.5; Noise(uV): 40; Number of Outputs: 1; Output Voltage: 1.5 V; PSRR(dB): 75; Vin Max(V): 20; Vin Min(V): 1.8; DatasheetVersion: Rev. A; PackageVersion: Jun-10; PackageReference: DD-8; PackageDescription: 8-Pin Plastic DFN, Body 3 x 3 mm, Pitch 0.5 mm; Supplier 1: Digi-Key; Supplier Part Number 1: LT1965EDD-1.5#TRPBF-ND; Packing: Tape and Reel; RoHS: TRUE; Shutdown Current(uA): 1; Mounting Technology: Surface Mount; Code_JEDEC: MO-229; ComponentLink1Description: Manufacturer URL; ComponentLink1URL: http://www.linear.com/; ComponentLink2Description: Datasheet; ComponentLink2URL: http://cds.linear.com/docs/en/datasheet/1965fa.pdf; ComponentLink3Description: Package Specification; ComponentLink3URL: http://cds.linear.com/docs/en/packaging/DFN_8_05-08-1698.pdf
footprint LT-DD-8_V (SON, 8-Leads, Body 3x3mm, Pitch 0.5mm, Thermal Pad 1.65x2.38 mm, IPC Low Density)
pins: 1 OUT (power) "Output. This pin supplies power to the load. Use a minimum output capacitor of 10uF to prevent oscillations. Large load transient applications require larger output capacitors to limit peak voltage transients. See the (See Datasheet)", 2 OUT (power) "Output. This pin supplies power to the load. Use a minimum output capacitor of 10uF to prevent oscillations. Large load transient applications require larger output capacitors to limit peak voltage transients. See the (See Datasheet)", 3 SENSE (in) "Sense. For fixed voltage versions of the LT1965 (LT1965-1.5/LT1965-1.8/ LT1965-2.5/ LT1965-3.3), the SENSE pin is the input to the error amplifier. Optimum regulation is obtained when the SENSE pin is connected to the OUT (See Datasheet)", 4 GND (power) "Ground.", 5 GND (power) "Ground.", 6 ~{SHDN} (in) "Shutdown. Pulling the S\H\D\N\ pin low puts the LT1965 into a low power state and turns the output off. Drive the S\H\D\N\ pin with either logic or an open collector/drain with a pull-up resistor. The resistor supplies the (See Datasheet)", 7 IN (power) "Input. This pin supplies power to the device. The LT1965 requires a bypass capacitor at IN if located more than six inches from the main input filter capacitor. Include a bypass capacitor in battery-powered circuits as a (See Datasheet)", 8 IN (power) "Input. This pin supplies power to the device. The LT1965 requires a bypass capacitor at IN if located more than six inches from the main input filter capacitor. Include a bypass capacitor in battery-powered circuits as a (See Datasheet)", 9 EP (power) "Ground. Tie this pin directly to Pins 4 and 5 and the PCB ground. This pin provides enhanced thermal performance with its connection to the PCB ground. See the Applications Information section for thermal considerations and (See Datasheet)"

## LT1965EDD-1.8#PBF
designator U?
1.1 A, Low Noise, Low Dropout Linear Regulator, 1.8 to 20 V Vin, 1.8 V Vout, 8-pin SON (DD-8), -40 to 125 degC, Pb-Free; Manufacturer: Linear Technology; PartNumber: LT1965EDD-1.8#PBF; Discrete Pass Element: no; Dropout Voltage(V): 0.31; Iout(mA): 1100; Isupply(mA): 0.5; Noise(uV): 40; Number of Outputs: 1; Output Voltage: 1.8 V; PSRR(dB): 75; Vin Max(V): 20; Vin Min(V): 1.8; DatasheetVersion: Rev. A; PackageVersion: Jun-10; PackageReference: DD-8; PackageDescription: 8-Pin Plastic DFN, Body 3 x 3 mm, Pitch 0.5 mm; Supplier 1: Digi-Key; Supplier Part Number 1: LT1965EDD-1.8#PBF-ND; Supplier 2: Farnell; Supplier Part Number 2: 2295227; Supplier 3: Newark; Supplier Part Number 3: 24R6654; RoHS: TRUE; Shutdown Current(uA): 1; Mounting Technology: Surface Mount; Code_JEDEC: MO-229; ComponentLink1Description: Manufacturer URL; ComponentLink1URL: http://www.linear.com/; ComponentLink2Description: Datasheet; ComponentLink2URL: http://cds.linear.com/docs/en/datasheet/1965fa.pdf; ComponentLink3Description: Package Specification; ComponentLink3URL: http://cds.linear.com/docs/en/packaging/DFN_8_05-08-1698.pdf
footprint LT-DD-8_V (SON, 8-Leads, Body 3x3mm, Pitch 0.5mm, Thermal Pad 1.65x2.38 mm, IPC Low Density)
pins: 1 OUT (power) "Output. This pin supplies power to the load. Use a minimum output capacitor of 10uF to prevent oscillations. Large load transient applications require larger output capacitors to limit peak voltage transients. See the (See Datasheet)", 2 OUT (power) "Output. This pin supplies power to the load. Use a minimum output capacitor of 10uF to prevent oscillations. Large load transient applications require larger output capacitors to limit peak voltage transients. See the (See Datasheet)", 3 SENSE (in) "Sense. For fixed voltage versions of the LT1965 (LT1965-1.5/LT1965-1.8/ LT1965-2.5/ LT1965-3.3), the SENSE pin is the input to the error amplifier. Optimum regulation is obtained when the SENSE pin is connected to the OUT (See Datasheet)", 4 GND (power) "Ground.", 5 GND (power) "Ground.", 6 ~{SHDN} (in) "Shutdown. Pulling the S\H\D\N\ pin low puts the LT1965 into a low power state and turns the output off. Drive the S\H\D\N\ pin with either logic or an open collector/drain with a pull-up resistor. The resistor supplies the (See Datasheet)", 7 IN (power) "Input. This pin supplies power to the device. The LT1965 requires a bypass capacitor at IN if located more than six inches from the main input filter capacitor. Include a bypass capacitor in battery-powered circuits as a (See Datasheet)", 8 IN (power) "Input. This pin supplies power to the device. The LT1965 requires a bypass capacitor at IN if located more than six inches from the main input filter capacitor. Include a bypass capacitor in battery-powered circuits as a (See Datasheet)", 9 EP (power) "Ground. Tie this pin directly to Pins 4 and 5 and the PCB ground. This pin provides enhanced thermal performance with its connection to the PCB ground. See the Applications Information section for thermal considerations and (See Datasheet)"

## LT1965EDD-1.8#TRPBF
designator U?
1.1 A, Low Noise, Low Dropout Linear Regulator, 1.8 to 20 V Vin, 1.8 V Vout, 8-pin SON (DD-8), -40 to 125 degC, Pb-Free, Tape and Reel; Manufacturer: Linear Technology; PartNumber: LT1965EDD-1.8#TRPBF; Discrete Pass Element: no; Dropout Voltage(V): 0.31; Iout(mA): 1100; Isupply(mA): 0.5; Noise(uV): 40; Number of Outputs: 1; Output Voltage: 1.8 V; PSRR(dB): 75; Vin Max(V): 20; Vin Min(V): 1.8; DatasheetVersion: Rev. A; PackageVersion: Jun-10; PackageReference: DD-8; PackageDescription: 8-Pin Plastic DFN, Body 3 x 3 mm, Pitch 0.5 mm; Supplier 1: Digi-Key; Supplier Part Number 1: LT1965EDD-1.8#TRPBF-ND; Packing: Tape and Reel; RoHS: TRUE; Shutdown Current(uA): 1; Mounting Technology: Surface Mount; Code_JEDEC: MO-229; ComponentLink1Description: Manufacturer URL; ComponentLink1URL: http://www.linear.com/; ComponentLink2Description: Datasheet; ComponentLink2URL: http://cds.linear.com/docs/en/datasheet/1965fa.pdf; ComponentLink3Description: Package Specification; ComponentLink3URL: http://cds.linear.com/docs/en/packaging/DFN_8_05-08-1698.pdf
footprint LT-DD-8_V (SON, 8-Leads, Body 3x3mm, Pitch 0.5mm, Thermal Pad 1.65x2.38 mm, IPC Low Density)
pins: 1 OUT (power) "Output. This pin supplies power to the load. Use a minimum output capacitor of 10uF to prevent oscillations. Large load transient applications require larger output capacitors to limit peak voltage transients. See the (See Datasheet)", 2 OUT (power) "Output. This pin supplies power to the load. Use a minimum output capacitor of 10uF to prevent oscillations. Large load transient applications require larger output capacitors to limit peak voltage transients. See the (See Datasheet)", 3 SENSE (in) "Sense. For fixed voltage versions of the LT1965 (LT1965-1.5/LT1965-1.8/ LT1965-2.5/ LT1965-3.3), the SENSE pin is the input to the error amplifier. Optimum regulation is obtained when the SENSE pin is connected to the OUT (See Datasheet)", 4 GND (power) "Ground.", 5 GND (power) "Ground.", 6 ~{SHDN} (in) "Shutdown. Pulling the S\H\D\N\ pin low puts the LT1965 into a low power state and turns the output off. Drive the S\H\D\N\ pin with either logic or an open collector/drain with a pull-up resistor. The resistor supplies the (See Datasheet)", 7 IN (power) "Input. This pin supplies power to the device. The LT1965 requires a bypass capacitor at IN if located more than six inches from the main input filter capacitor. Include a bypass capacitor in battery-powered circuits as a (See Datasheet)", 8 IN (power) "Input. This pin supplies power to the device. The LT1965 requires a bypass capacitor at IN if located more than six inches from the main input filter capacitor. Include a bypass capacitor in battery-powered circuits as a (See Datasheet)", 9 EP (power) "Ground. Tie this pin directly to Pins 4 and 5 and the PCB ground. This pin provides enhanced thermal performance with its connection to the PCB ground. See the Applications Information section for thermal considerations and (See Datasheet)"